# EAGLE library part ESP32-C3* (library Espressif)
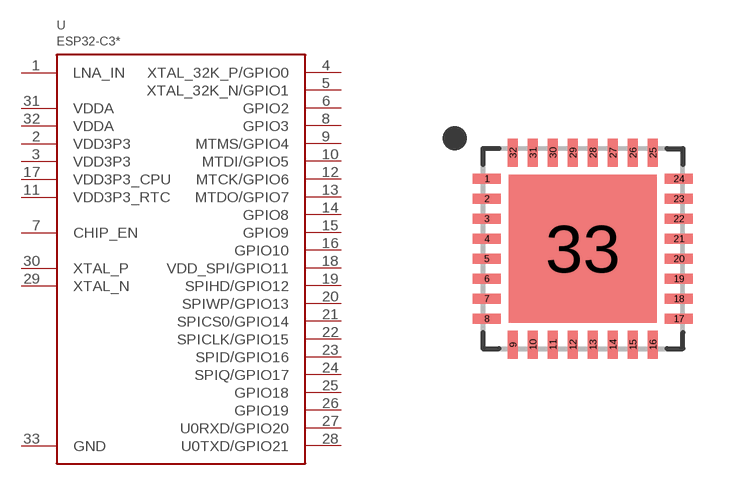
[diagram p1: symbol with the pads of QFN32; footprint QFN32]

Designator prefix U

## ESP32-C3, ESP32-C3FH4  [QFN32]
1  LNA_IN
2  VDD3P3
3  VDD3P3
4  XTAL_32K_P/GPIO0
5  XTAL_32K_N/GPIO1
6  GPIO2
7  CHIP_EN
8  GPIO3
9  MTMS/GPIO4
10  MTDI/GPIO5
11  VDD3P3_RTC
12  MTCK/GPIO6
13  MTDO/GPIO7
14  GPIO8
15  GPIO9
16  GPIO10
17  VDD3P3_CPU
18  VDD_SPI/GPIO11
19  SPIHD/GPIO12
20  SPIWP/GPIO13
21  SPICS0/GPIO14
22  SPICLK/GPIO15
23  SPID/GPIO16
24  SPIQ/GPIO17
25  GPIO18
26  GPIO19
27  U0RXD/GPIO20
28  U0TXD/GPIO21
29  XTAL_N
30  XTAL_P
31  VDDA
32  VDDA
33  GND

## Footprint QFN32 (pad centres in mm)
smd 0.7 x 0.25: 1 -2.4,1.75; 2 -2.4,1.25; 3 -2.4,0.75; 4 -2.4,0.25; 5 -2.4,-0.25; 6 -2.4,-0.75; 7 -2.4,-1.25; 8 -2.4,-1.75; 17 2.4,-1.75; 18 2.4,-1.25; 19 2.4,-0.75; 20 2.4,-0.25; 21 2.4,0.25; 22 2.4,0.75; 23 2.4,1.25; 24 2.4,1.75
smd 0.25 x 0.7: 9 -1.75,-2.4; 10 -1.25,-2.4; 11 -0.75,-2.4; 12 -0.25,-2.4; 13 0.25,-2.4; 14 0.75,-2.4; 15 1.25,-2.4; 16 1.75,-2.4; 25 1.75,2.4; 26 1.25,2.4; 27 0.75,2.4; 28 0.25,2.4; 29 -0.25,2.4; 30 -0.75,2.4; 31 -1.25,2.4; 32 -1.75,2.4
smd 3.7 x 3.7: 33 0,0